# EAGLE library part NRF24L01-4X2 (library custom)
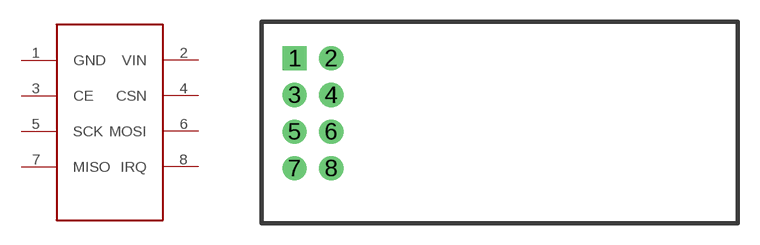
[diagram p1: symbol with the pads of NRF24L01-4X2; footprint NRF24L01-4X2]

Designator prefix U

## NRF24L01-4X2  [NRF24L01-4X2]
1  GND  pwr
2  VIN  pwr
3  CE  in
4  CSN  in
5  SCK  in
6  MOSI  in
7  MISO  out
8  IRQ  out

## Footprint NRF24L01-4X2 (pad centres in mm)
NRF24L01 4x2pin RF module
drill 1.016 pad 1.676 square: 1 -11.67,3.81
drill 1.016 pad 1.676: 2 -9.13,3.81; 3 -11.67,1.27; 4 -9.13,1.27; 5 -11.67,-1.27; 6 -9.13,-1.27; 7 -11.67,-3.81; 8 -9.13,-3.81